# Altium integrated library Barrier-Terminal-Block.IntLib: 7 symbols
Pins are listed as number, name and electrical type; pins without a type are passive.

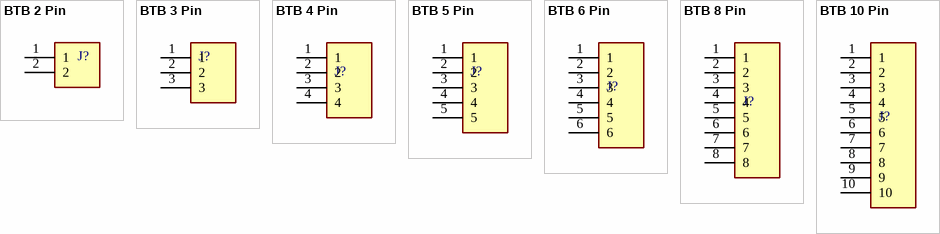
[diagram p0: symbols BTB 2 Pin to BTB 10 Pin]

## BTB 2 Pin
designator J?
Barrier Terminal Block 2 Pin; DatasheetVersion: 2022
footprint Barrier Terminal Block 2 Pin
pins: 1, 2

## BTB 3 Pin
designator J?
Barrier Terminal Block 2 Pin; DatasheetVersion: 2022
footprint Barrier Terminal Block 3 Pin
pins: 1, 2, 3

## BTB 4 Pin
designator J?
Barrier Terminal Block 2 Pin; DatasheetVersion: 2022
footprint Barrier Terminal Block 4 Pin
pins: 1, 2, 3, 4

## BTB 5 Pin
designator J?
Barrier Terminal Block 2 Pin; DatasheetVersion: 2022
footprint Barrier Terminal Block 5 Pin
pins: 1, 2, 3, 4, 5

## BTB 6 Pin
designator J?
Barrier Terminal Block 2 Pin; DatasheetVersion: 2022
footprint Barrier Terminal Block 6 Pin
pins: 1, 2, 3, 4, 5, 6

## BTB 8 Pin
designator J?
Barrier Terminal Block 2 Pin; DatasheetVersion: 2022
footprint Barrier Terminal Block 8 Pin
pins: 1, 2, 3, 4, 5, 6, 7, 8

## BTB 10 Pin
designator J?
Barrier Terminal Block 2 Pin; DatasheetVersion: 2022
footprint Barrier Terminal Block 10 Pin
pins: 1, 2, 3, 4, 5, 6, 7, 8, 9, 10